# EAGLE library part KXN_HEADER_1X6 (library kxnStandard_connector)
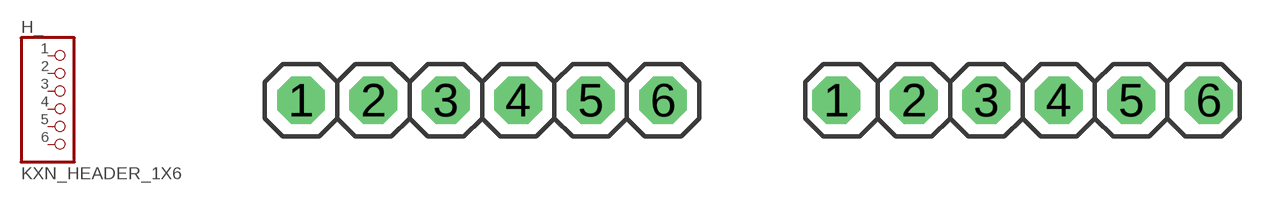
[diagram p4: symbol with the pads of HEADER_1X6_254; footprints HEADER_1X6_254, HEADER_1X6_254_LOCK]

Designator prefix H_

## KXN_HEADER_1X6 (CC_SHOP: CongCo; VALUE: HEADER_BLACK_254_1X6)  [HEADER_1X6_254]
1  1  pas
2  2  pas
3  3  pas
4  4  pas
5  5  pas
6  6  pas

## KXN_HEADER_1X6_M_LOCK (CC_SHOP: CongCo; VALUE: HEADER_BLACK_254_1X6)  [HEADER_1X6_254_LOCK]
Pads as for HEADER_1X6_254

## KXN_HEADER_1X6_LF (CC_COST: 0.1; CC_ID: 522579376259; CC_OPTION: 1*6P单排母座; CC_SHOP: CongCo; INFO: Header Female Straight 2.54mm 1x6P 8.5mm Black; KXN_ID: SA88157764; LINK_MH: https://banlinhkien.com/jump-don-cai-2.54mm-1x6p-thang-5c-p22711163.html; VALUE: HFS_1x6P_Black)  [HEADER_1X6_LOCK_FEMALE]
Pads as for HEADER_1X6_254

## Footprint HEADER_1X6_254 (pad centres in mm)
drill 0.95 pad 1.676 octagon: 1 -6.35,0; 2 -3.81,0; 3 -1.27,0; 4 1.27,0; 5 3.81,0; 6 6.35,0

## Footprint HEADER_1X6_254_LOCK (pad centres in mm)
drill 0.95 pad 1.676 octagon: 1 -6.53,0; 2 -3.81,0; 3 -1.27,0; 4 1.27,0; 5 3.81,0; 6 6.53,0

## Footprint HEADER_1X6_LOCK_FEMALE (pad centres in mm)
drill 0.65 pad 1.676 octagon: 1 -6.4,0; 2 -3.81,0; 5 3.81,0; 6 6.4,0
drill 0.75 pad 1.676 octagon: 3 -1.27,0; 4 1.27,0